# Altium schematic symbol library optocoupler.SchLib: 47 symbols
Pins are listed as number, name and electrical type; pins without a type are passive.

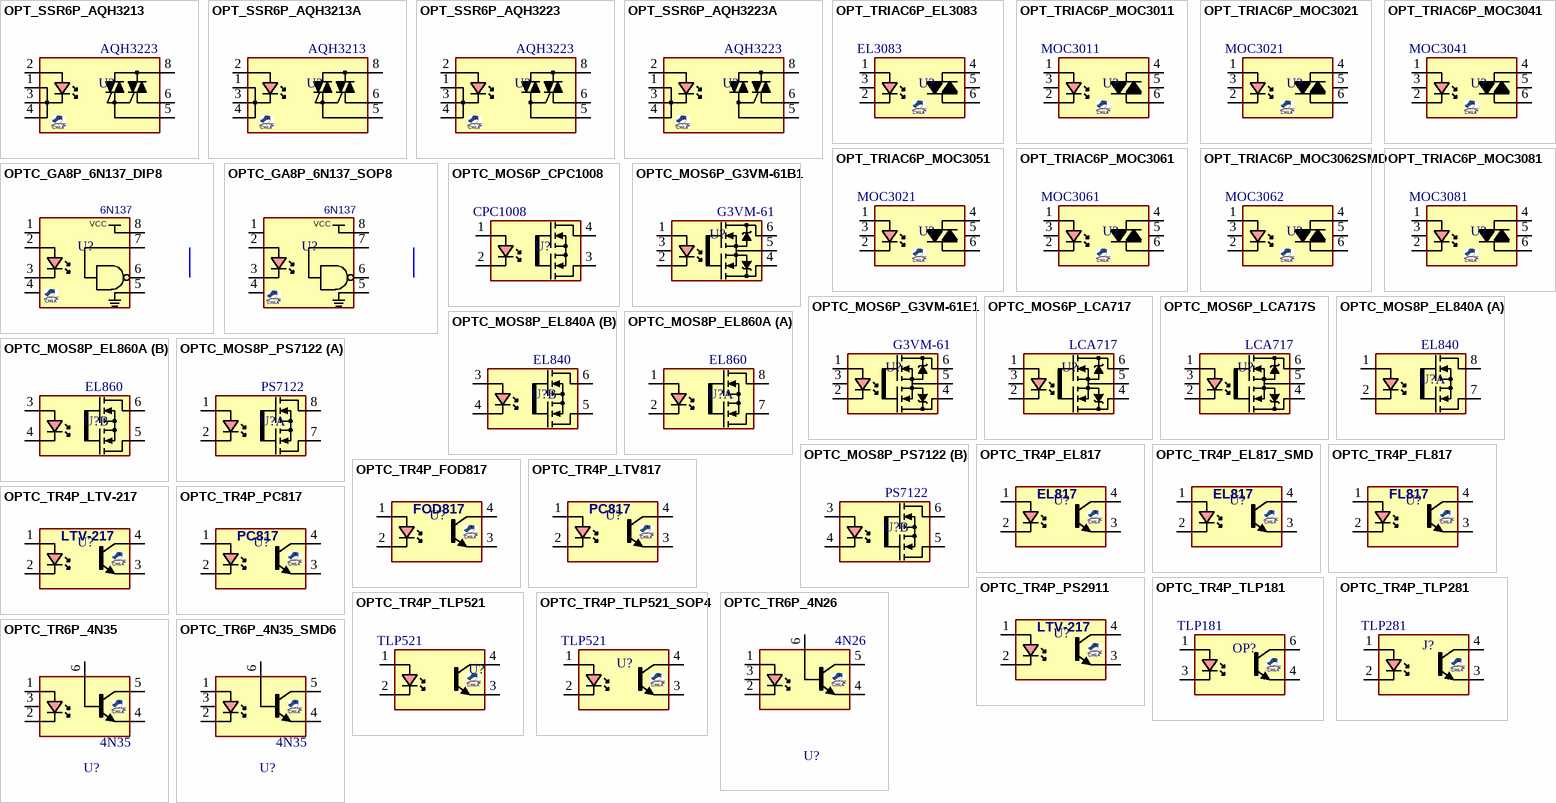
[diagram p0: symbols OPT_SSR6P_AQH3213 to OPTC_TR6P_4N35_SMD6]

## OPT_SSR6P_AQH3213
designator U?, comment AQH3223
SSR, 8PIN, 600V/1.2A, ZERO CROSS DETECTION; MANF: PANASONIC; PARAM: 600V, 1.2A; MANF_P#: AQH3223; PRICE: 2.4$; VALUE: AQH3223
footprint DIP_8 (DIP, pitch 2.54mm, 300mil Width)
pins: 1 C1, 2 K, 3 C2, 4 C3, 5 T12/ZC, 6 T11, 8 T2

## OPT_SSR6P_AQH3213A
designator U?, comment AQH3213
SSR, 8PIN, 600V/1.2A, ZERO CROSS DETECTION; MANF: PANASONIC; MANF_P#: AQH3213A; PARAM: 600V, 1.2A; PRICE: 2.4$; VALUE: AQH3213
footprint DIP_8SMD (DIP8 SMD Package)
pins: 1 C1, 2 K, 3 C2, 4 C3, 5 T12/ZC, 6 T11, 8 T2

## OPT_SSR6P_AQH3223
designator U?, comment AQH3223
SSR, 8PIN, 600V/1.2A; MANF: PANASONIC; PARAM: 600V, 1.2A; MANF_P#: AQH3223; PRICE: 2.4$; VALUE: AQH3223
footprint DIP_8 (DIP, pitch 2.54mm, 300mil Width)
pins: 1 C1, 2 K, 3 C2, 4 C3, 5 T12, 6 T11, 8 T2

## OPT_SSR6P_AQH3223A
designator U?, comment AQH3223
SSR, 8PIN, 600V/1.2A; MANF: PANASONIC; MANF_P#: AQH3223A; PARAM: 600V, 1.2A; PRICE: 2.4$; VALUE: AQH3223
footprint DIP_8SMD (DIP8 SMD Package)
pins: 1 C1, 2 K, 3 C2, 4 C3, 5 T12, 6 T11, 8 T2

## OPT_TRIAC6P_EL3083
designator U?, comment EL3083
OPTOTRIAC, 800v/1A; MANF: EVERLIGHT; PARAM2: 300mW, -40~85°C; PARAM: 6v/60mA IN/ 800v/1A out, 5mA LED; MANF_P#: EL3083; PRICE: 5t@paya; VALUE: EL3083
footprint DIP_6 (DIP, pitch 2.54mm, 300mil Width)
pins: 1 A, 2 K, 3 NC, 4 A/K, 5 NC, 6 A/K

## OPT_TRIAC6P_MOC3011
designator U?, comment MOC3011
OPTOTRIAC, 250v/1A; PARAM2: 300mW, -40~85°C; PARAM: 3v/60mA IN/ 250v/1A out; MANF_P#: MOC3011; PRICE: 5t@paya; VALUE: MOC3011
footprint DIP_6 (DIP, pitch 2.54mm, 300mil Width)
pins: 1 A, 2 K, 3 NC, 4 A/K, 5 NC, 6 A/K

## OPT_TRIAC6P_MOC3021
designator U?, comment MOC3021
OPTOTRIAC, 400v/1A; MANF_P#: MOC3021-3; PARAM2: 300mW, -40~85°C; PARAM: 3v/60mA IN/ 400v/1A out; PRICE: 3t@paya; VALUE: MOC3021
footprint DIP_6 (DIP, pitch 2.54mm, 300mil Width)
pins: 1 A, 2 K, 3 NC, 4 A/K, 5 NC, 6 A/K

## OPT_TRIAC6P_MOC3041
designator U?, comment MOC3041
OPTOTRIAC, 400v/1A, 6v IN; PARAM2: 300mW, -40~85°C; PARAM: 6v/60mA IN/ 400v/1A out; MANF_P#: MOC3041; PRICE: 5t@paya; VALUE: MOC3041
footprint DIP_6 (DIP, pitch 2.54mm, 300mil Width)
pins: 1 A, 2 K, 3 NC, 4 A/K, 5 NC, 6 A/K

## OPT_TRIAC6P_MOC3051
designator U?, comment MOC3021
OPTOTRIAC, 600v/1A; MANF_P#: MOC3021-3; PARAM2: 300mW, -40~85°C; PARAM: 3v/60mA IN/ 600v/1A out; PRICE: 7t@paya; VALUE: MOC3021
footprint DIP_6 (DIP, pitch 2.54mm, 300mil Width)
pins: 1 A, 2 K, 3 NC, 4 A/K, 5 NC, 6 A/K

## OPT_TRIAC6P_MOC3061
designator U?, comment MOC3061
OPTOTRIAC, 600v/1A, 6v In; PARAM2: 300mW, -40~85°C; PARAM: 6v/60mA IN/ 600v/1A out; MANF_P#: MOC3061; PRICE: 5t@paya; VALUE: MOC3061
footprint DIP_6 (DIP, pitch 2.54mm, 300mil Width)
pins: 1 A, 2 K, 3 NC, 4 A/K, 5 NC, 6 A/K

## OPT_TRIAC6P_MOC3062SMD
designator U?, comment MOC3062
OPTOTRIAC, 600v/1A, 6v In; PARAM2: 300mW, -40~85°C; PARAM: 6v/60mA IN/ 600v/1A out, 10mA LED; MANF_P#: MOC3062; PRICE: 7t@paya; VALUE: MOC3062
footprint DIP_6SMD (DIP6 SMD Package)
pins: 1 A, 2 K, 3 NC, 4 A/K, 5 NC, 6 A/K

## OPT_TRIAC6P_MOC3081
designator U?, comment MOC3081
OPTOTRIAC, 800v/1A; PARAM2: 300mW, -40~85°C; PARAM: 6v/60mA IN/ 800v/1A out; MANF_P#: MOC3081; PRICE: 6t@paya; VALUE: MOC3081
footprint DIP_6 (DIP, pitch 2.54mm, 300mil Width)
pins: 1 A, 2 K, 3 NC, 4 A/K, 5 NC, 6 A/K

## OPTC_GA8P_6N137_DIP8
designator U?, comment 6N137
OPTOCOUPLER, LOGIC GATE, 10 MBit/s; MANF: VISHAY; MANF_P#: 6N137; PRICE: 2500t@PAYA; VALUE: 6N137
footprint DIP_8 (DIP, pitch 2.54mm, 300mil Width)
pins: 1 NC, 2 A, 3 K, 4 NC, 5 GND, 6 VO, 7 VE, 8 VCC

## OPTC_GA8P_6N137_SOP8
designator U?, comment 6N137
OPTOCOUPLER, LOGIC GATE, 10 MBit/s; MANF_P#: 6N137SD; MANF: VISHAY; PRICE: 2000t@PAYA; VALUE: 6N137
footprint SO_8
pins: 1 NC, 2 A, 3 K, 4 NC, 5 GND, 6 VO, 7 VE, 8 VCC

## OPTC_MOS6P_CPC1008
designator U?, comment CPC1008
OPTOCOUPLER, MOS SSR, 4PIN; PRICE: PRICE; VALUE: CPC1008
footprint DIP_4SMD (DIP4, pitch 2.54mm, 300mil Width SMD)
pins: 1 A "Anode", 2 K "Cathode", 3 OU2 "Emitter", 4 OU1 "Collector"

## OPTC_MOS6P_G3VM-61B1
designator U?, comment G3VM-61
OPTOCOUPLER, MOS SSR, 6PIN; PRICE: PRICE; VALUE: G3VM-61
footprint DIP_6 (DIP, pitch 2.54mm, 300mil Width)
pins: 1 A "Anode", 2 K "Cathode", 3, 4, 5, 6

## OPTC_MOS6P_G3VM-61E1
designator U?, comment G3VM-61
OPTOCOUPLER, MOS SSR, 6PIN; PRICE: PRICE; VALUE: G3VM-61
footprint DIP_6SMD (DIP6 SMD Package)
pins: 1 A "Anode", 2 K "Cathode", 3, 4, 5, 6

## OPTC_MOS6P_LCA717
designator U?, comment LCA717
OPTOCOUPLER, MOS SSR, 6PIN; MANF: IXYS; MANF_P#: LCA717; PRICE: PRICE; VALUE: LCA717
footprint DIP_6 (DIP, pitch 2.54mm, 300mil Width)
pins: 1 A "Anode", 2 K "Cathode", 3, 4, 5, 6

## OPTC_MOS6P_LCA717S
designator U?, comment LCA717
OPTOCOUPLER, MOS SSR, 6PIN; MANF: IXYS; MANF_P#: LCA717S; PRICE: PRICE; VALUE: LCA717
footprint DIP_6SMD (DIP6 SMD Package)
pins: 1 A "Anode", 2 K "Cathode", 3, 4, 5, 6

## OPTC_MOS8P_EL840A
designator U?, comment EL840
OPTOCOUPLER, MOS SSR, DUAL, 8PIN; MANF: Everlight; PRICE: PRICE; VALUE: EL840
footprint DIP_8 (DIP, pitch 2.54mm, 300mil Width)
part A pins: 1 A "Anode", 2 K "Cathode", 7 OU2 "Emitter", 8 OU1 "Collector"
part B pins: 3 A2 "Anode", 4 K2 "Cathode", 5 OU4 "Emitter", 6 OU3 "Collector"

## OPTC_MOS8P_EL860A
designator U?, comment EL860
OPTOCOUPLER, MOS SSR, DUAL, 8PIN; MANF: Everlight; PRICE: PRICE; VALUE: EL860
footprint DIP_8 (DIP, pitch 2.54mm, 300mil Width)
part A pins: 1 A "Anode", 2 K "Cathode", 7 OU2 "Emitter", 8 OU1 "Collector"
part B pins: 3 A2 "Anode", 4 K2 "Cathode", 5 OU4 "Emitter", 6 OU3 "Collector"

## OPTC_MOS8P_PS7122
designator U?, comment PS7122
OPTOCOUPLER, MOS SSR, DUAL, 8PIN; PRICE: PRICE; VALUE: PS7122
footprint DIP_8 (DIP, pitch 2.54mm, 300mil Width)
part A pins: 1 A "Anode", 2 K "Cathode", 7 OU2 "Emitter", 8 OU1 "Collector"
part B pins: 3 A2 "Anode", 4 K2 "Cathode", 5 OU4 "Emitter", 6 OU3 "Collector"

## OPTC_TR4P_EL817
designator U?, comment EL817  (value not drawn)
OPTOCOUPLER, TRANSISTOR, 4PIN; PARAM: IF=5mA; PARAM2: VCE = 5V; PRICE: 300t@Paya; VALUE: EL817
footprint DIP_4 (BRIDGE DIODE, DIP, pitch 2.54mm, 300mil Width)
pins: 1 A "Anode", 2 K "Cathode", 3 E "Emitter", 4 C "Collector"

## OPTC_TR4P_EL817_SMD
designator U?, comment EL817  (value not drawn)
OPTOCOUPLER, TRANSISTOR, 4PIN; PARAM: IF=5mA; PARAM2: VCE = 5V; PRICE: 300t@Paya; VALUE: EL817
footprint DIP_4SMD (DIP4, pitch 2.54mm, 300mil Width SMD)
pins: 1 A "Anode", 2 K "Cathode", 3 E "Emitter", 4 C "Collector"

## OPTC_TR4P_FL817
designator U?, comment FL817  (value not drawn)
OPTOCOUPLER, TRANSISTOR, 4PIN; PRICE: PRICE; VALUE: FL817
footprint DIP_4 (BRIDGE DIODE, DIP, pitch 2.54mm, 300mil Width)
pins: 1 A "Anode", 2 K "Cathode", 3 E "Emitter", 4 C "Collector"

## OPTC_TR4P_FOD817
designator U?, comment FOD817  (value not drawn)
OPTOCOUPLER, TRANSISTOR, 4PIN; PARAM: IF=5mA; PARAM2: VCE = 5V; PRICE: PRICE; VALUE: FOD817
footprint DIP_4 (BRIDGE DIODE, DIP, pitch 2.54mm, 300mil Width)
pins: 1 A "Anode", 2 K "Cathode", 3 E "Emitter", 4 C "Collector"

## OPTC_TR4P_LTV817
designator U?, comment LTV817  (value not drawn)
OPTOCOUPLER, TRANSISTOR, 4PIN; PARAM: IF=5mA; PARAM2: VCE = 5V; MANF: LITE-ON; MANF_P#: LTV817; PRICE: -; VALUE: LTV817
footprint DIP_4 (BRIDGE DIODE, DIP, pitch 2.54mm, 300mil Width)
pins: 1 A "Anode", 2 K "Cathode", 3 E "Emitter", 4 C "Collector"
text: PC817

## OPTC_TR4P_LTV-217
designator U?, comment LTV-217  (value not drawn)
OPTOCOUPLER, TRANSISTOR, 4PIN; PARAM: IF= 5mA; PARAM2: VCE = 5V; MANF: LITE-ON; MANF_P#: LTV-217; PRICE: -; VALUE: LTV-217
footprint SO_4 (SOP-4, 2.6x4.4mm body 1.27mm pitch)
pins: 1 A "Anode", 2 K "Cathode", 3 E "Emitter", 4 C "Collector"

## OPTC_TR4P_PC817
designator U?, comment PC817  (value not drawn)
OPTOCOUPLER, TRANSISTOR, 4PIN; PARAM: IF=20mA; PARAM2: VCE = 35V; MANF: SHARP; MANF_P#: PC817; PRICE: -; VALUE: PC817
footprint DIP_4 (BRIDGE DIODE, DIP, pitch 2.54mm, 300mil Width)
pins: 1 A "Anode", 2 K "Cathode", 3 E "Emitter", 4 C "Collector"

## OPTC_TR4P_PS2911
designator U?, comment PS2911  (value not drawn)
OPTOCOUPLER, TRANSISTOR, 4PIN; PARAM: IF=1mA; PARAM2: VCE = 5V; MANF: CEL; MANF_P#: PS2911; PRICE: -; VALUE: PS2911
footprint SO_4F (SOP-4, 2.6x4.4mm body 1.27mm pitch FLAT)
pins: 1 A "Anode", 2 K "Cathode", 3 E "Emitter", 4 C "Collector"
text: LTV-217

## OPTC_TR4P_TLP181
designator OP?, comment TLP181
OPTOCOUPLER, TRANSISTOR, 4PIN; MANF: TOSHIBA; PRICE: 1000t@PAYA; VALUE: TLP181
footprint DIP_4SMD_MINI (SMD MINI FLAT, HCPL-181, pitch:2.54mm, 4.4x3.6mm)
pins: 1, 3, 4, 6

## OPTC_TR4P_TLP281
designator J?, comment TLP281
OPTOCOUPLER, TRANSISTOR, 4PIN; PRICE: PRICE; VALUE: TLP281
footprint SO_4 (Footprint not found)
pins: 1 A "Anode", 2 K "Cathode", 3 E "Emitter", 4 C "Collector"

## OPTC_TR4P_TLP521
designator U?, comment TLP521
OPTOCOUPLER, TRANSISTOR, 4PIN; PRICE: PRICE; VALUE: TLP521
footprint DIP_4 (BRIDGE DIODE, DIP, pitch 2.54mm, 300mil Width)
pins: 1, 2, 3, 4

## OPTC_TR4P_TLP521_SOP4
designator U?, comment TLP521
OPTOCOUPLER, TRANSISTOR, 4PIN; PRICE: PRICE; VALUE: TLP521
footprint DIP_4SMD (DIP4, pitch 2.54mm, 300mil Width SMD)
pins: 1, 2, 3, 4

## OPTC_TR6P_4N26
designator U?, comment 4N26
OPTOCOUPLER, TRANSISTOR, 6PIN; PRICE: PRICE; VALUE: 4N26
footprint DIP_6 (DIP, pitch 2.54mm, 300mil Width)
pins: 1 A, 2 K, 3 NC, 4 E, 5 C, 6 B

## OPTC_TR6P_4N35
designator U?, comment 4N35
OPTOCOUPLER, TRANSISTOR, 6PIN; MANF: EVERLIGHT; MANF_P#: 4N35; PRICE: 500t@PAYA; VALUE: 4N35
footprint DIP_6 (DIP, pitch 2.54mm, 300mil Width)
simulation model OPTOISO (Spice Subcircuit)
pins: 1 A "Anode", 2 K "Cathode", 3 K "Cathode", 4 E "Emitter", 5 C "Collector", 6 B "Base"

## OPTC_TR6P_4N35_SMD6
designator U?, comment 4N35
OPTOCOUPLER, TRANSISTOR, 6PIN; MANF: VISHAY; MANF_P#: 4N35-X; PRICE: 1000t@PAYA; VALUE: 4N35
footprint DIP_6SMD (DIP6 SMD Package)
simulation model OPTOISO (Spice Subcircuit)
pins: 1 A "Anode", 2 K "Cathode", 3 K "Cathode", 4 E "Emitter", 5 C "Collector", 6 B "Base"

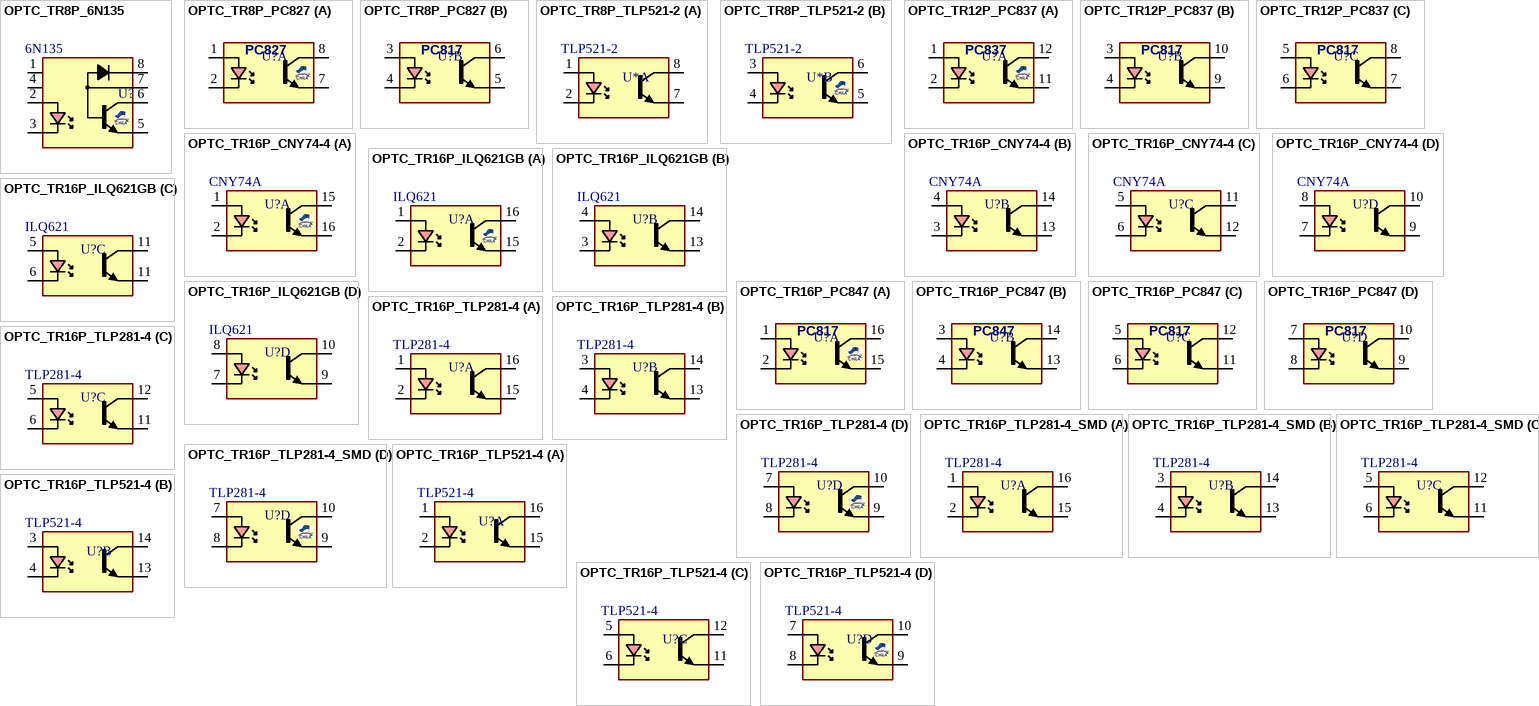
[diagram p1: symbols OPTC_TR8P_6N135 to OPTC_TR16P_TLP521-4]

## OPTC_TR8P_6N135
designator U?, comment 6N135
OPTOCOUPLER, TRANSISTOR, 8PIN; PRICE: PRICE; VALUE: 6N135
footprint DIP_8 (DIP, pitch 2.54mm, 300mil Width)
pins: 1 NC, 2 A "Led+", 3 K "LED-", 4 NC, 5 GND, 6 VO "Collector", 7 VB "Base", 8 VCC "Vcc"

## OPTC_TR8P_PC827
designator U?, comment PC827  (value not drawn)
OPTOCOUPLER, TRANSISTOR, 2 PARTs; PARAM: IF=20mA; PARAM2: VCE = 35V; MANF: SHARP; MANF_P#: PC827; PRICE: -; VALUE: PC827
footprint DIP_8 (DIP, pitch 2.54mm, 300mil Width)
part A pins: 1 A "Anode", 2 K "Cathode", 7 E "Emitter", 8 C "Collector"
part B pins: 3 A2, 4 K2 (power), 5 E2 (power), 6 C2 (power)
part B text: PC817

## OPTC_TR8P_TLP521-2
designator U*, comment TLP521-2
OPTOCOUPLER, TRANSISTOR, DUAL; MANF_P#: TLP521-2A; PRICE: PRICE; VALUE: TLP521-2
footprint DIP_8 (Footprint not found)
part A pins: 1 A, 2 K, 7 E, 8 C
part B pins: 3 A, 4 K, 5 E, 6 C

## OPTC_TR12P_PC837
designator U?, comment PC837  (value not drawn)
OPTOCOUPLER, TRANSISTOR, 3 PARTs; PARAM: IF=20mA; PARAM2: VCE = 35V; MANF: SHARP; MANF_P#: PC837; PRICE: -; VALUE: PC837
footprint DIP_12 (DIP, pitch 2.54mm, 300mil Width)
part A pins: 1 A "Anode", 2 K "Cathode", 11 E "Emitter", 12 C "Collector"
part B pins: 3 A2, 4 K2 (power), 9 E2 (power), 10 C2 (power)
part C pins: 5 A3 "Anode", 6 K3 "Cathode", 7 E3 "Emitter", 8 C3 "Collector"
part B text: PC817
part C text: PC817

## OPTC_TR16P_CNY74-4
designator U?, comment CNY74A
OPTOCOUPLER, TRANSISTOR, QUAD; PRICE: PRICE; VALUE: CNY74A
footprint DIP_16 (DIP, pitch 2.54mm, 300mil Width)
part A pins: 1 A1, 2 K1, 15 C1, 16 E1
part B pins: 3 K2, 4 A2, 13 E2, 14 C2
part C pins: 5 A3, 6 K3, 11 C3, 12 E3
part D pins: 7 K4, 8 A4, 9 E4, 10 C4

## OPTC_TR16P_ILQ621GB
designator U?, comment ILQ621
OPTOCOUPLER, TRANSISTOR, QUAD; MANF: VISHAY; MANF_P#: ILQ621GB; PARAM: CTR 100%; PRICE: 6000t@PAYA; VALUE: ILQ621
footprint DIP_16 (DIP, pitch 2.54mm, 300mil Width)
part A pins: 1 A1, 2 K1, 15 E1, 16 C1
part B pins: 3 K2, 4 A2, 13 E2, 14 C2
part C pins: 5 A3, 6 K3, 11 C3, 11 E3
part D pins: 7 K4, 8 A4, 9 E4, 10 C4

## OPTC_TR16P_PC847
designator U?, comment PC847  (value not drawn)
OPTOCOUPLER, TRANSISTOR, 4 PARTs; PARAM: IF=20mA; PARAM2: VCE = 35V; MANF: SHARP; MANF_P#: PC847; PRICE: -; VALUE: PC847
footprint DIP_16 (DIP, pitch 2.54mm, 300mil Width)
part A pins: 1 A "Anode", 2 K "Cathode", 15 E "Emitter", 16 C "Collector"
part B pins: 3 A2, 4 K2 (power), 13 E2 (power), 14 C2 (power)
part C pins: 5 A3 "Anode", 6 K3 "Cathode", 11 E3 "Emitter", 12 C3 "Collector"
part D pins: 7 A4 "Anode", 8 K4 "Cathode", 9 E4 "Emitter", 10 C4 "Collector"
part A text: PC817
part C text: PC817
part D text: PC817

## OPTC_TR16P_TLP281-4
designator U?, comment TLP281-4
OPTOCOUPLER, TRANSISTOR, QUAD; MANF_P#: TLP281-4A; PRICE: PRICE; VALUE: TLP281-4
footprint DIP_16 (DIP, pitch 2.54mm, 300mil Width)
footprint DIP_16SMD (DIP4, pitch 2.54mm, 300mil Width SMD)
part A pins: 1, 2, 15 (power), 16 (power)
part B pins: 3, 4 (power), 13 (power), 14 (power)
part C pins: 5 (power), 6 (power), 11 (power), 12 (power)
part D pins: 7 (power), 8 (power), 9 (power), 10 (power)

## OPTC_TR16P_TLP281-4_SMD
designator U?, comment TLP281-4
OPTOCOUPLER, TRANSISTOR, QUAD; MANF_P#: TLP281-4A; PRICE: 4000t@PAYA; VALUE: TLP281-4
footprint SO_16 (SOP, SOIC, 3.9mm width, 1.27mm pitch,)
part A pins: 1, 2, 15 (power), 16 (power)
part B pins: 3, 4 (power), 13 (power), 14 (power)
part C pins: 5 (power), 6 (power), 11 (power), 12 (power)
part D pins: 7 (power), 8 (power), 9 (power), 10 (power)

## OPTC_TR16P_TLP521-4
designator U?, comment TLP521-4
OPTOCOUPLER, TRANSISTOR, QUAD; MANF_P#: TLP521-4A; PRICE: PRICE; VALUE: TLP521-4
footprint DIP_16 (DIP, pitch 2.54mm, 300mil Width)
part A pins: 1 A, 2 K, 15 E, 16 C
part B pins: 3 A, 4 K, 13 E, 14 C
part C pins: 5 A, 6 K, 11 E, 12 C
part D pins: 7 A, 8 K, 9 E, 10 C